# Altium footprint library XT90PB-M.PcbLib: 1 footprints
Each footprint in its own frame and in the unit in brackets; x right, y up, seen from the top. Pads: shape width x height; smd on the part's side, far side on the other; paste and mask are expansions set on the pad; w line width, h text height; cw(c..) or ccw(c..) is an arc to the next point about the centre after c.
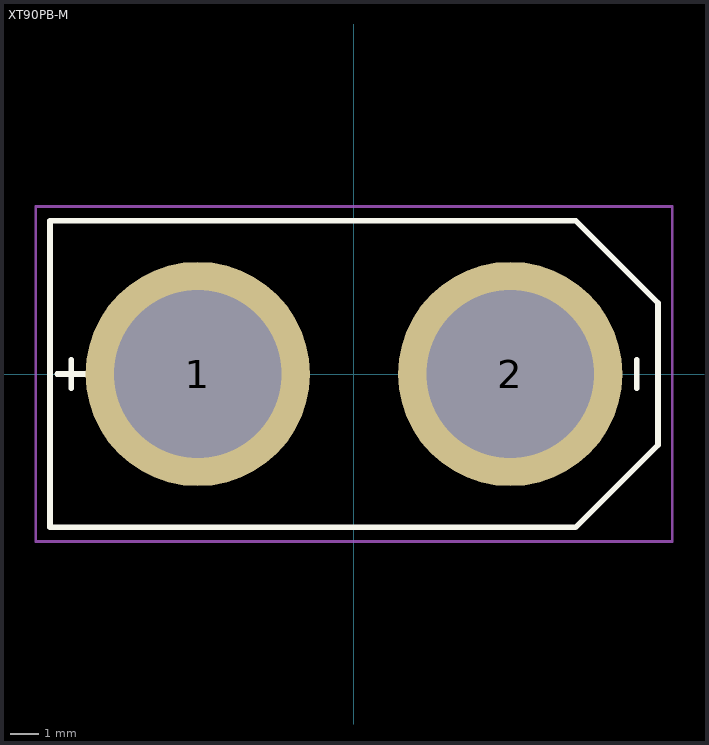
[diagram p0: the footprint, top view; thin cyan lines are the x and y axes]

## XT90PB-M [mm]
pads (2):
  round 7.9 hole 5.9: 1(-5.5,0) 2(5.5,0)
Top Overlay:
  lines w0.2: -10.45,0 -9.45,0 ; -9.95,-0.5 -9.95,0.5 ; 9.95,-0.5 9.95,0.5 ; -10.7,-5.4 -10.7,5.4 7.8,5.4 10.7,2.5 10.7,-2.5 7.8,-5.4 -10.7,-5.4
Top Courtyard:
  lines w0.1: -11.2,-5.9 -11.2,5.9 11.2,5.9 11.2,-5.9 -10.7,-5.9 -11.2,-5.9
3D body "User Library-XT90PB-M.step": height 20.95, standoff -5.45, extent -10.7,-5.4 10.7,5.4